# Altium schematic symbol library TI LDC1314.SchLib: 1 symbol
Pins are listed as number, name and electrical type; pins without a type are passive.

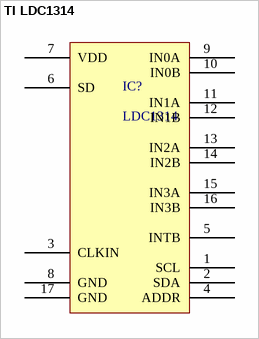
[diagram p0: symbol TI LDC1314]

## TI LDC1314
designator IC?, comment LDC1314
pins: 1 SCL, 2 SDA, 3 CLKIN, 4 ADDR, 5 INTB, 6 SD, 7 VDD, 8 GND, 9 IN0A, 10 IN0B, 11 IN1A, 12 IN1B, 13 IN2A, 14 IN2B, 15 IN3A, 16 IN3B, 17 GND